# Altium integrated library EEETP1V101AP.IntLib: 1 symbol
Pins are listed as number, name and electrical type; pins without a type are passive.

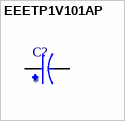
[diagram p0: symbol EEETP1V101AP]

## EEETP1V101AP
designator C?
100ÂµF 35V Aluminum Electrolytic Capacitors Radial, Can - SMD 2000 Hrs @ 125Â°C; MP: EEE-TP1V101AP; MF: Panasonic; Purchase-URL: https://pricing.snapeda.com/search/part/EEE-TP1V101AP/?ref=eda; Check_prices: https://www.snapeda.com/parts/EEE-TP1V101AP/Panasonic/view-part/496338/?ref=eda; Value: *; SnapEDA_Link: https://www.snapeda.com/parts/EEE-TP1V101AP/Panasonic/view-part/496338/?ref=snap; Availability: In Stock; Price: None; Package: RADIAL-2 Panasonic
footprint CAP_EEETP1V101AP
pins: 1, 2